# Altium integrated library Module_AFE.IntLib: 9 symbols
Pins are listed as number, name and electrical type; pins without a type are passive.

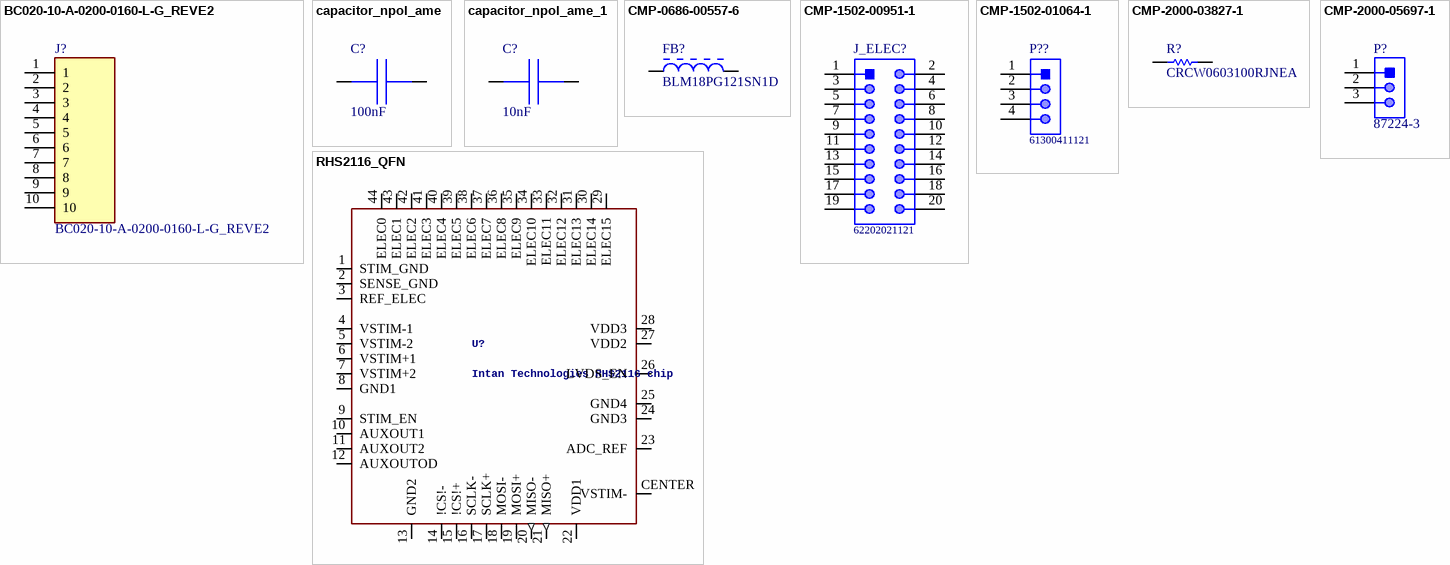
[diagram p0: symbols BC020-10-A-0200-0160-L-G_REVE2 to RHS2116_QFN]

## BC020-10-A-0200-0160-L-G_REVE2
designator J?
BC020 - 1.00mm pitch Header Board to Board Connector; MF: Global Connector Technology; SnapEDA_Link: https://www.snapeda.com/parts/BC020-10-A-0200-0160-L-G/Global%20Connector%20Technology/view-part/4800265/?ref=snap; Value: *; MP: BC020-10-A-0200-0160-L-G; Package: None; Price: None; Availability: Unavailable
footprint GCT_BC020-10-A-0200-0160-L-G_REVE2
pins: 1, 2, 3, 4, 5, 6, 7, 8, 9, 10

## capacitor_npol_ame
designator C?  value 100nF  (hidden comment: capacitor_npol_ame)
Capacitor Non-polarized American Symbol; Manufacturer: Yageo; Manuracturer Part Number: CC0402KRX7R8BB104; Voltage Rating: 25V; Priging 1: 1 	0.15000 	$0.15 (CAD); Package: 0402; Supplier 1: Digikey; Supplier Part Number 1: 311-2077-1-ND; Supplier Link 1: https://www.digikey.ca/product-detail/en/yageo/CC0402KRX7R8BB104/311-2077-1-ND/5698948; Stock 1: 143,749; ComponentLink1URL: http://www.yageo.com/documents/recent/UPY-GPHC_X7R_6.3V-to-50V_18.pdf; ComponentLink1Description: Datasheet; Supplier Description 1: CAP CER 0.1UF 25V X7R 0402
footprint rcl_0201i_0603m_nominal (Chip RCL, 0201 Imperial, 0603 Metric, 2-Leads, Body 0.6x0.3mm, IPC Nominal Medium Density)
footprint rcl_0402i_1005m_most (Chip RCL, 0402 Imperial, 1005 Metric, 2-Leads, Body 1.00x0.5mm, IPC Most Land (Low Density))
footprint rcl_0603i_1608m_nominal (Chip RCL, 0603 Imperial, 1608 Metric, 2-Leads, Body 1.6x0.8mm, IPC Nominal Medium Density)
footprint rcl_0805i_2012m_nominal (Chip RCL, 0805 Imperial, 2012 Metric, 2-Leads, Body 2.00x1.25mm, IPC Nominal Medium Density)
footprint rcl_0201i_0603m_least (Chip RCL, 0201 Imperial, 0603 Metric, 2-Leads, Body 0.6x0.3mm, IPC Least Land (High Density))
footprint rcl_0201i_0603m_most (Chip RCL, 0201 Imperial, 0603 Metric, 2-Leads, Body 0.6x0.3mm, IPC Most Land (Low Density))
footprint rcl_0402i_1005m_least (Chip RCL, 0402 Imperial, 1005 Metric, 2-Leads, Body 1.00x0.5mm, IPC Least Land (High Density))
footprint rcl_0402i_1005m_most (Chip RCL, 0402 Imperial, 1005 Metric, 2-Leads, Body 1.00x0.5mm, IPC Most Land (Low Density))
footprint rcl_0603i_1608m_least (Chip RCL, 0603 Imperial, 1608 Metric, 2-Leads, Body 1.6x0.8mm, IPC Least Land (High Density))
footprint rcl_0603i_1608m_most (Chip RCL, 0603 Imperial, 1608 Metric, 2-Leads, Body 1.6x0.8mm, IPC Most Land (Low Density))
footprint rcl_0805i_2012m_least (Chip RCL, 0805 Imperial, 2012 Metric, 2-Leads, Body 2.00x1.25mm, IPC Least Land (High Density))
footprint rcl_0805i_2012m_most (Chip RCL, 0805 Imperial, 2012 Metric, 2-Leads, Body 2.00x1.25mm, IPC Most Land (Low Density))
pins: 1, 2

## capacitor_npol_ame_1
designator C?, comment value 10nF  (hidden comment: capacitor_npol_ame)
Capacitor Non-polarized American Symbol; Manufacturer: Murata Electronics North America; Manufacturer Part Number: GRM155R71H103KA88D; Voltage Rating: 25V; Tolerance: 10%; Case Code: 0402; Supplier 1: 7PCB/Bittele; Supplier Part Number 1: GRM155R71H103KA88D; Supplier Link 1: https://parts.7pcb.com/; Stock 1: 8970712; Pricing 1: Free; ComponentLink1URL: https://www.murata.com/~/media/webrenewal/support/library/catalog/products/capacitor/mlcc/c02e.ashx?la=en-us; ComponentLink1Description: Reference Sheet; Supplier Description 1: CAP CER 0.01uF ±10% 50V X7R 0402
footprint rcl_0201i_0603m_nominal (Chip RCL, 0201 Imperial, 0603 Metric, 2-Leads, Body 0.6x0.3mm, IPC Nominal Medium Density)
footprint rcl_0402i_1005m_most (Chip RCL, 0402 Imperial, 1005 Metric, 2-Leads, Body 1.00x0.5mm, IPC Most Land (Low Density))
footprint rcl_0603i_1608m_nominal (Chip RCL, 0603 Imperial, 1608 Metric, 2-Leads, Body 1.6x0.8mm, IPC Nominal Medium Density)
footprint rcl_0805i_2012m_nominal (Chip RCL, 0805 Imperial, 2012 Metric, 2-Leads, Body 2.00x1.25mm, IPC Nominal Medium Density)
footprint rcl_0201i_0603m_least (Chip RCL, 0201 Imperial, 0603 Metric, 2-Leads, Body 0.6x0.3mm, IPC Least Land (High Density))
footprint rcl_0201i_0603m_most (Chip RCL, 0201 Imperial, 0603 Metric, 2-Leads, Body 0.6x0.3mm, IPC Most Land (Low Density))
footprint rcl_0402i_1005m_least (Chip RCL, 0402 Imperial, 1005 Metric, 2-Leads, Body 1.00x0.5mm, IPC Least Land (High Density))
footprint rcl_0402i_1005m_most (Chip RCL, 0402 Imperial, 1005 Metric, 2-Leads, Body 1.00x0.5mm, IPC Most Land (Low Density))
footprint rcl_0603i_1608m_least (Chip RCL, 0603 Imperial, 1608 Metric, 2-Leads, Body 1.6x0.8mm, IPC Least Land (High Density))
footprint rcl_0603i_1608m_most (Chip RCL, 0603 Imperial, 1608 Metric, 2-Leads, Body 1.6x0.8mm, IPC Most Land (Low Density))
footprint rcl_0805i_2012m_least (Chip RCL, 0805 Imperial, 2012 Metric, 2-Leads, Body 2.00x1.25mm, IPC Least Land (High Density))
footprint rcl_0805i_2012m_most (Chip RCL, 0805 Imperial, 2012 Metric, 2-Leads, Body 2.00x1.25mm, IPC Most Land (Low Density))
pins: 1, 2

## CMP-0686-00557-6
designator FB?, comment BLM18PG121SN1D
Chip Ferrite Bead for Power Lines, 120 Ohm, 2000 mA, -55 to 125 degC, 1.6 x 0.8 x 0.95 mm SMD, Tape and Reel; Manufacturer: Murata; Impedance (at 100 MHz): 120 Ohm +/- 25%; Rated Current: 2000 mA; DC Resistance: 0.05 Ohm Max.; DatasheetVersion: 08/2013; PackageDescription: 2-Pin Chip, Body 1.6 x 0.8 mm; ComponentLink3URL: http://www.murata.com/products/catalog/pdf/c31e.pdf; PartNumber: BLM18PG121SN1D; ComponentLink1URL: http://www.murata.com/; ComponentLink2Description: Datasheet; Mounting Technology: Surface Mount; ComponentLink1Description: Manufacturer URL; PackageReference: BLM18_H950-2; ComponentLink2URL: http://www.murata.com/products/catalog/pdf/c31e.pdf; ComponentLink3Description: Package Specification; Packing: Tape and Reel; Operating Temperature Range: -55 to 125 degC; Manufacturer Part Number: BLM18PG121SN1D
footprint MURA-BLM18PG_KG-B25-CHIP-2_V1 (Chip Ferrite Bead, 2-Leads, Body 1.6x0.8mm, Height 0.95mm, Flow, 18um Land Pad Thickness, 1.7 to 2.5A Rated Current)
footprint MURA-BLM18PG_KG-B25-CHIP-2_V2 (Chip Ferrite Bead, 2-Leads, Body 1.6x0.8mm, Height 0.95mm, Flow, 35/70um Land Pad Thickness, 1.7 to 2.5A Rated Current)
footprint MURA-BLM18PG_KG-B25-CHIP-2_V3 (Chip Ferrite Bead, 2-Leads, Body 1.6x0.8mm, Height 0.95mm, Reflow, 18um Land Pad Thickness, 1.7 to 2.5A Rated Current)
footprint MURA-BLM18PG_KG-B25-CHIP-2_V4 (Chip Ferrite Bead, 2-Leads, Body 1.6x0.8mm, Height 0.95mm, Reflow, 35/70um Land Pad Thickness, 1.7 to 2.5A Rated Current)
pins: 1, 2

## CMP-1502-00951-1
designator J_ELEC?, comment 62202021121
THT Vertical Pin Header WR-PHD, Pitch 1.27 mm, Dual Row, 20 pins; Manufacturer: Wurth Elektronik; Manufacturer: Wurth Electronics; Pin Number: 20; Gender: Male; Pitch: 1.27mm; Contact Resistance: 20mOhm; Rated Current: 1A; Withstanding Voltage: 500VAC; Working Voltage: 100VAC; Manufacturer URL: http://www.we-online.de; Mounting Technology: THT; Operating Temperature: -40to105degC; Datasheet URL: https://katalog.we-online.de/em/datasheet/62202021121.pdf; Package Reference: 62202021121; Part Number: 62202021121; Row Number: Dual; Publisher: WurthElektronik; Packaging: Box; Orientation: Vertical; Manufacturer Part Number: 62202021121
footprint 62202021121 (Pin Header, pitch 1.27 mm, THT, Vertical, dual row, 20p)
pins: 1, 2, 3, 4, 5, 6, 7, 8, 9, 10, 11, 12, 13, 14, 15, 16, 17, 18, 19, 20

## CMP-1502-01064-1
designator P??, comment 61300411121
THT Vertical Pin Header WR-PHD, Pitch 2.54 mm, Single Row, 4 pins; Manufacturer: Wurth Elektronik; Manufacturer: Wurth Electronics; Withstanding Voltage: 500VAC; Rated Current: 3A; Working Voltage: 250VAC; Pin Number: 4; Gender: Male; Contact Resistance: 20mOhm; Pitch: 2.54mm; Manufacturer URL: http://www.we-online.de; Operating Temperature: -40to105degC; Packaging: Bag; Mounting Technology: THT; Package Reference: 61300411121; Datasheet URL: https://katalog.we-online.de/em/datasheet/6130xx11121.pdf; Publisher: WurthElektronik; Part Number: 61300411121; Row Number: Single; Orientation: Vertical; Manufacturer Part Number: 61300411121
footprint 61300411121 (Pin Header, pitch 2.54 mm, THT, Vertical, single row, 4p)
pins: 1, 2, 3, 4

## CMP-2000-03827-1
designator R?, comment CRCW0603100RJNEA
Manufacturer: Vishay Dale; Part Number: CRCW0603100RJNEA; Manufacturer Part Number: CRCW0603100RJNEA
footprint RESC1609X50X30ML10T20 (Chip Resistor, 2-Leads, Body 1.55x0.85mm, IPC Low Density)
footprint RESC1609X50X30NL10T20 (Chip Resistor, 2-Leads, Body 1.55x0.85mm, IPC Medium Density)
footprint RESC1609X50X30LL10T20 (Chip Resistor, 2-Leads, Body 1.55x0.85mm, IPC High Density)
pins: 1, 2
1 alternate drawing of the same symbol

## CMP-2000-05697-1
designator P?, comment 87224-3
Male Header, Pitch 2.54 mm, 1 x 3 Position, Height 10.744 mm, Tail Length 3.175 mm, -65 to 105 degC, RoHS, Bulk; Manufacturer: TE Connectivity; Catalog Drawings: SingleSquareStraightPost / SingleSquareStraightPostSide; Connector Type: Header,Unshrouded; Pitch: 0.100"(2.54mm); Mating Products: 147738-2-ND / -CONNRCPT3POSVERTSMDGOLD / 147723-2-ND / -CONNRCPT3POSVERT.100GOLD / 146763-5-ND / -CONNRCPT3POSSGLVERT.100T/H / A32904-ND / -CONNRECEPT3POS.100VERTGOLD / A26922-ND / -CONNHOUSING3POS.100LOCKING / A26415-ND / -CONNRECEPT3POS.100VERTAU / A26964-ND / -CONNHOUSING3POS.100SINGLE / A3012-ND / -CONNHOUSING3POS.100SINGLE; Number of Positions Loaded: All; Featured Product: AMPMODUConnectors; Dynamic Catalog: AMPMODUModIISeries; 3D Model: 87224-3.pdf; Other Names: 87224-3-ND / A26545; Number of Positions: 3; RoHS Information: 87224-3StatementofCompliance; Termination: Solder; Datasheet URL: http://www.te.com/commerce/DocumentDelivery/DDEController?Action=showdoc&DocId=Customer+Drawing%7F87224%7FL3%7Fpdf%7FEnglish%7FENG_CD_87224_L3.pdf%7F87224-3; Category: Connectors,Interconnects; Contact Mating Length: 0.318"(8.08mm); Standard Package: 520; Mounting Type: ThroughHole; Family: RectangularConnectors-Headers,MalePins; Number of Rows: 1; Series: AMPMODUModII; Contact Finish Thickness: 15µin(0.38µm); Datasheet Version: Rev. L3, 08/2015; Package Reference: 87224-3; Mounting Technology: ThroughHole; Manufacturer URL: http://www.te.com/; Contact Type: MalePin; Packaging: Bulk; Color: Black; Package Description: Male Header, Pitch 2.54 mm, 1 x 3 Position, Height 10.744 mm, Tail Length 3.175 mm; Contact Finish: Gold; Manufacturer Part Number: 87224-3
footprint TECO-87224-3_V (THD, 3-Leads, Body 7.21x2.31mm, Pitch 2.54mm)
pins: 1, 2, 3

## RHS2116_QFN
designator U?, comment Intan Technologies RHS2116 chip
ComponentLink1Discription: Datasheet; ComponentLink2Discription: Bare Die; Pricing 1: 1-24=325;  25-99=278;  100-249=233;  250-499=188;  500-999=151  (USD); Supplier 1: Intan; Manufacturer: Intan Technologies; Manufacturer Part Number: RHS2116; Supplier Part Number 1: RHS2116; ComponentLink1URL: http://intantech.com/files/Intan_RHS2116_datasheet.pdf; ComponentLink2URL: http://intantech.com/files/RHS2116_die_diagram.pdf; Supplier Link 1: http://intantech.com/products_RHS2000.html
footprint QFN44_7_X_7
footprint QFN44_7_X_7
pins: 1 STIM_GND (power), 2 SENSE_GND (power), 3 REF_ELEC, 4 VSTIM-1 (power), 5 VSTIM-2 (power), 6 VSTIM+1 (power), 7 VSTIM+2 (power), 8 GND1 (power), 9 STIM_EN, 10 AUXOUT1 (hiz), 11 AUXOUT2 (hiz), 12 AUXOUTOD (oc), 13 GND2 (power), 14 !CS!-, 15 !CS!+, 16 SCLK-, 17 SCLK+, 18 MOSI-, 19 MOSI+, 20 MISO- (out), 21 MISO+ (out), 22 VDD1 (power), 23 ADC_REF, 24 GND3 (power), 25 GND4 (power), 26 LVDS_EN, 27 VDD2 (power), 28 VDD3 (power), 29 ELEC15, 30 ELEC14, 31 ELEC13, 32 ELEC12, 33 ELEC11, 34 ELEC10, 35 ELEC9, 36 ELEC8, 37 ELEC7, 38 ELEC6, 39 ELEC5, 40 ELEC4, 41 ELEC3, 42 ELEC2, 43 ELEC1, 44 ELEC0, CENTER VSTIM- (power)